# Altium schematic symbol library RTC_TIMER.SchLib: 4 symbols
Pins are listed as number, name and electrical type; pins without a type are passive.

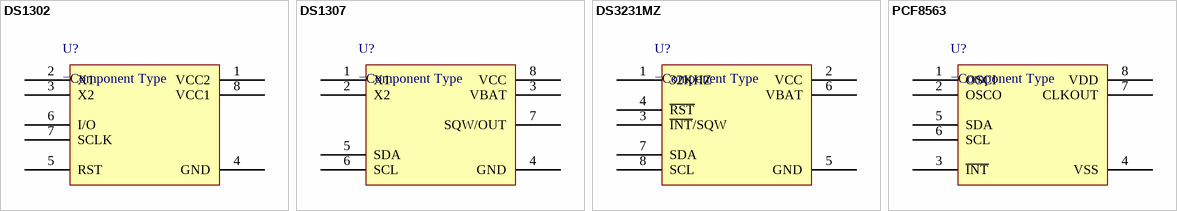
[diagram p0: symbols DS1302 to PCF8563]

## DS1302
designator U?
pins: 1 VCC2, 2 X1, 3 X2, 4 GND, 5 RST, 6 I/O, 7 SCLK, 8 VCC1

## DS1307
designator U?
pins: 1 X1, 2 X2, 3 VBAT, 4 GND, 5 SDA, 6 SCL, 7 SQW/OUT, 8 VCC

## DS3231MZ
designator U?
pins: 1 32KHZ, 2 VCC, 3 ~{INT}/SQW, 4 ~{RST}, 5 GND, 6 VBAT, 7 SDA, 8 SCL

## PCF8563
designator U?
pins: 1 OSCI, 2 OSCO, 3 ~{INT}, 4 VSS, 5 SDA, 6 SCL, 7 CLKOUT, 8 VDD